# Altium footprint library ESP32-C3-WROOM-02-N4.PcbLib: 1 footprints
Each footprint in its own frame and in the unit in brackets; x right, y up, seen from the top. Pads: shape width x height; smd on the part's side, far side on the other; paste and mask are expansions set on the pad; w line width, h text height; cw(c..) or ccw(c..) is an arc to the next point about the centre after c.
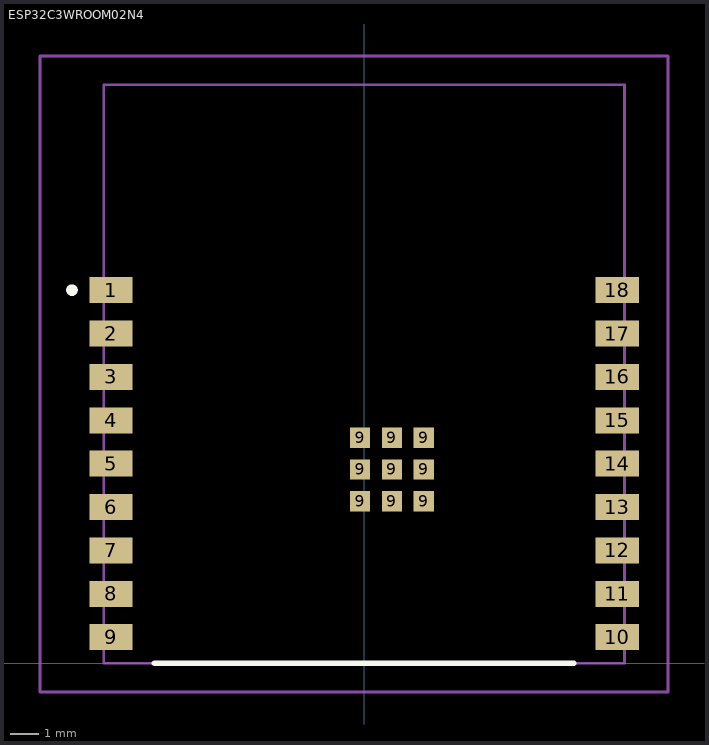
[diagram p0: the footprint, top view; thin cyan lines are the x and y axes]

## ESP32C3WROOM02N4 [mm]
pads (27):
  rect 1.5x0.9 smd: 1(-8.75,12.9) 2(-8.75,11.4) 3(-8.75,9.9) 4(-8.75,8.4) 5(-8.75,6.9) 6(-8.75,5.4) 7(-8.75,3.9) 8(-8.75,2.4) 9(-8.75,0.9) 10(8.75,0.9) 11(8.75,2.4) 12(8.75,3.9) 13(8.75,5.4) 14(8.75,6.9) 15(8.75,8.4) 16(8.75,9.9) 17(8.75,11.4) 18(8.75,12.9)
  rect 0.7x0.7 smd: 9(-0.14,5.6) 9(-0.14,6.7) 9(-0.14,7.8) 9(0.96,5.6) 9(0.96,6.7) 9(0.96,7.8) 9(2.06,5.6) 9(2.06,6.7) 9(2.06,7.8)
Top Overlay:
  lines w0.2: -10.2,12.9 ccw(c-10.1,12.9) -10,12.9 ; -10.2,12.9 cw(c-10.1,12.9) -10,12.9 ; -10.2,12.9 ccw(c-10.1,12.9) -10,12.9 ; -7.25,0 7.25,0 -7.25,0
Mechanical 15:
  lines w0.1: -9,0 -9,20 9,20 9,0 -9,0
Mechanical 20:
  lines w0.1: -11.2,-1 -11.2,21 10.5,21 10.5,-1 -11.2,-1
3D body "ESP32-C3-WROOM-02-N4.stp": height 3.2, standoff 0, extent -9.005,0.002 8.995,20.002